# Altium footprint library Connector Footprints.PcbLib: 65 footprints (part 4 of 5)
Each footprint in its own frame and in the unit in brackets; x right, y up, seen from the top. Pads: shape width x height; smd on the part's side, far side on the other; paste and mask are expansions set on the pad; w line width, h text height; cw(c..) or ccw(c..) is an arc to the next point about the centre after c.
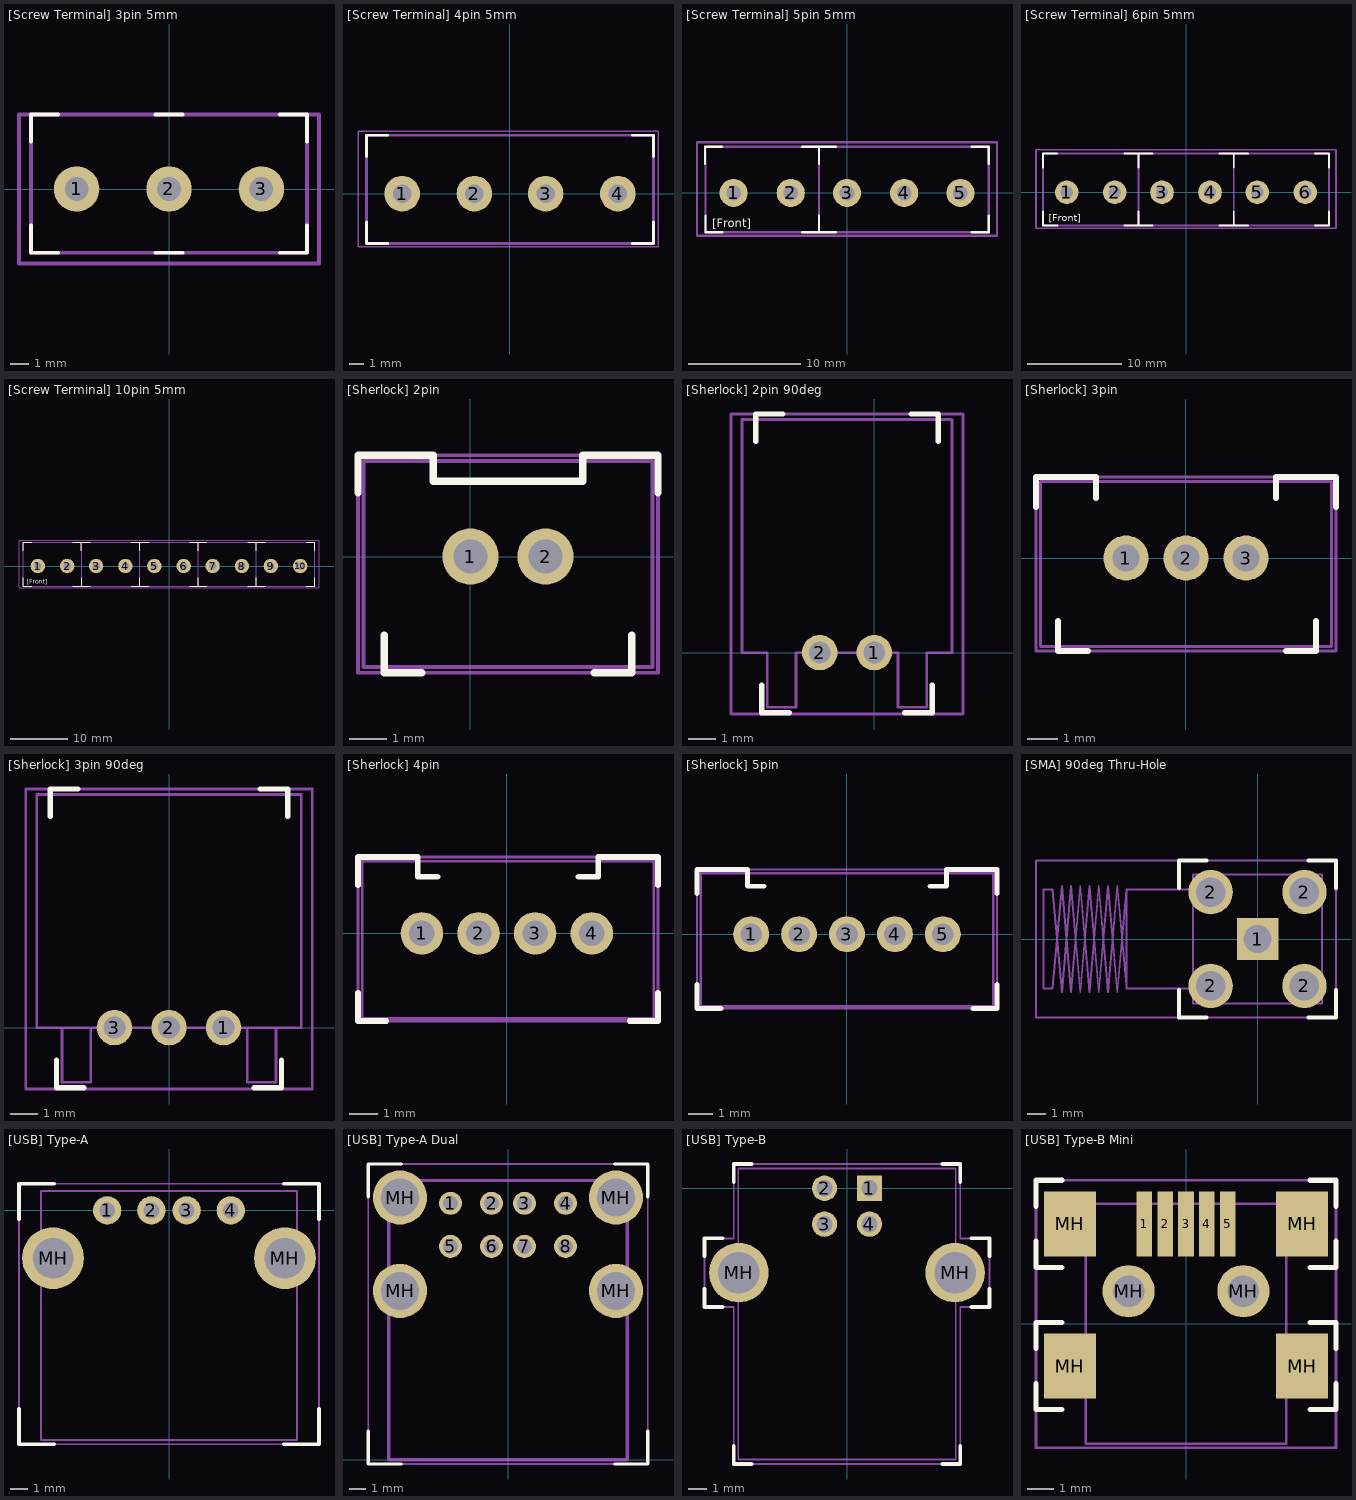
[diagram p3: the footprints below, top view; thin cyan lines are the x and y axes]

## [Screw Terminal] 3pin 5mm [mm]
pads (3):
  round 2.5 hole 1.3: 1(-5.08,0) 2(0,0) 3(5.08,0)
Top Overlay:
  lines w0.2: -7.59,-2 -7.59,-3.5 -6.09,-3.5 ; -7.59,2.6 -7.59,4.1 -6.09,4.1 ; -0.75,-3.5 0.75,-3.5 ; -0.75,4.1 0.75,4.1 ; 6.09,-3.5 7.59,-3.5 7.59,-2 ; 6.09,4.1 7.59,4.1 7.59,2.6
Physical Drawing:
  lines w0.2: -7.59,-3.5 7.59,-3.5 7.59,4.1 -7.59,4.1 -7.59,-3.5
Part Outline:
  lines w0.2: -8.25,-4.1 8.25,-4.1 8.25,4.1 -8.25,4.1 -8.25,-4.1
3D body "TB002-500-03BE.stp": height 10, standoff -4.35, extent -8,-3.5 7.5,4.1

## [Screw Terminal] 4pin 5mm [mm]
pads (4):
  round 2.5 hole 1.3: 1(-7.58,0) 2(-2.5,0) 3(2.5,0) 4(7.58,0)
Top Overlay:
  lines w0.2: -10.09,-2 -10.09,-3.5 -8.59,-3.5 ; -10.09,2.6 -10.09,4.1 -8.59,4.1 ; 8.59,-3.5 10.09,-3.5 10.09,-2 ; 8.59,4.1 10.09,4.1 10.09,2.6
Physical Drawing:
  lines w0.2: -10.09,-3.5 -10.09,4.1 10.09,4.1 10.09,-3.5 -10.09,-3.5
Part Outline:
  lines w0.1: -10.68,-3.75 -10.68,4.4 10.4,4.4 10.4,-3.75 -10.68,-3.75
3D body "TB002-500-02BE.stp": height 9.99, standoff -4.36, extent -0.41,-3.5 10.09,4.1
3D body "TB002-500-02BE.stp": height 9.99, standoff -4.36, extent -10.53,-3.5 -0.03,4.1

## [Screw Terminal] 5pin 5mm [mm]
pads (5):
  round 2.5 hole 1.3: 1(-10.08,0) 2(-5,0) 3(0,0) 4(5.08,0) 5(10.08,0)
Top Overlay:
  lines w0.2: -12.61,2.6 -12.61,4.1 -11.11,4.1 ; -12.57,-2 -12.57,-3.5 -11.07,-3.5 ; -3.99,-3.5 -2.49,-3.5 ; -3.99,4.1 -2.49,4.1 ; -2.49,-2 -2.49,-3.5 ; -2.49,2.6 -2.49,4.1 ; -0.99,-3.5 -2.49,-3.5 ; -0.99,4.1 -2.49,4.1 ; 11.09,-3.5 12.59,-3.5 12.59,-2 ; 11.09,4.1 12.59,4.1 12.59,2.6
  text "[Front]" at -11.962,-3.042 h0.75
Physical Drawing:
  lines w0.2: -12.59,-3.5 12.59,-3.5 12.59,4.1 -12.59,4.1 ; -12.57,-3.5 -12.57,4.1 ; -2.49,-3.5 -2.49,4.1
Part Outline:
  lines w0.2: -13.33,-3.8 -13.33,4.5 13.33,4.5 13.33,-3.8 -13.33,-3.8
3D body "TB002-500-03BE.stp": height 10, standoff -4.35, extent -2.92,-3.5 12.58,4.1
3D body "TB002-500-02BE.stp": height 10, standoff -4.35, extent -12.99,-3.5 -2.49,4.1

## [Screw Terminal] 6pin 5mm [mm]
pads (6):
  round 2.5 hole 1.3: 1(-12.62,0) 2(-7.54,0) 3(-2.54,0) 4(2.54,0) 5(7.54,0) 6(12.62,0)
Top Overlay:
  lines w0.2: -15.15,2.6 -15.15,4.1 -13.65,4.1 ; -15.11,-2 -15.11,-3.5 -13.61,-3.5 ; -6.53,-3.5 -5.03,-3.5 ; -6.53,4.1 -5.03,4.1 ; -5.03,-2 -5.03,-3.5 ; -5.03,2.6 -5.03,4.1 ; -3.53,-3.5 -5.03,-3.5 ; -3.53,4.1 -5.03,4.1 ; 3.55,-3.5 5.05,-3.5 ; 3.55,4.1 5.05,4.1 ; 5.05,-2 5.05,-3.5 ; 5.05,2.6 5.05,4.1 ; 6.55,-3.5 5.05,-3.5 ; 6.55,4.1 5.05,4.1 ; 13.63,-3.5 15.13,-3.5 15.13,-2 ; 13.63,4.1 15.13,4.1 15.13,2.6
  text "[Front]" at -14.502,-3.042 h0.75
Physical Drawing:
  lines w0.2: -15.13,-3.5 15.13,-3.5 15.13,4.1 -15.13,4.1 ; -15.11,-3.5 -15.11,4.1 ; -5.03,-3.5 -5.03,4.1 ; 5.05,-3.5 5.05,4.1
Part Outline:
  lines w0.2: -15.87,-3.8 -15.87,4.5 15.87,4.5 15.87,-3.8 -15.87,-3.8
3D body "TB002-500-02BE.stp": height 9.99, standoff -4.36, extent 4.63,-3.5 15.13,4.1
3D body "TB002-500-02BE.stp": height 9.99, standoff -4.36, extent -5.45,-3.5 5.05,4.1
3D body "TB002-500-02BE.stp": height 9.99, standoff -4.36, extent -15.53,-3.5 -5.03,4.1

## [Screw Terminal] 10pin 5mm [mm]
pads (10):
  round 2.5 hole 1.3: 1(-22.7,0) 2(-17.62,0) 3(-12.62,0) 4(-7.54,0) 5(-2.54,0) 6(2.54,0) 7(7.54,0) 8(12.62,0) 9(17.62,0) 10(22.7,0)
Top Overlay:
  lines w0.2: -25.21,-2 -25.21,-3.5 -23.71,-3.5 ; -25.21,2.6 -25.21,4.1 -23.71,4.1 ; -16.65,4.1 -15.15,4.1 ; -16.61,-3.5 -15.11,-3.5 ; -15.15,2.6 -15.15,4.1 ; -15.11,-2 -15.11,-3.5 ; -13.65,4.1 -15.15,4.1 ; -13.61,-3.5 -15.11,-3.5 ; -6.53,-3.5 -5.03,-3.5 ; -6.53,4.1 -5.03,4.1 ; -5.03,-2 -5.03,-3.5 ; -5.03,2.6 -5.03,4.1 ; -3.53,-3.5 -5.03,-3.5 ; -3.53,4.1 -5.03,4.1 ; 3.55,-3.5 5.05,-3.5 ; 3.55,4.1 5.05,4.1 ; 5.05,-2 5.05,-3.5 ; 5.05,2.6 5.05,4.1 ; 6.55,-3.5 5.05,-3.5 ; 6.55,4.1 5.05,4.1 ; 13.63,-3.5 15.13,-3.5 ; 13.63,4.1 15.13,4.1 ; 15.13,-2 15.13,-3.5 ; 15.13,2.6 15.13,4.1 ; 16.63,-3.5 15.13,-3.5 ; 16.63,4.1 15.13,4.1 ; 23.71,-3.5 25.21,-3.5 25.21,-2 ; 23.71,4.1 25.21,4.1 25.21,2.6
  text "[Front]" at -24.582,-3.042 h0.75
Physical Drawing:
  lines w0.2: -15.11,-3.5 -15.11,4.1 ; -5.03,-3.5 -5.03,4.1 ; 5.05,-3.5 5.05,4.1 ; 15.13,-3.5 15.13,4.1 ; -25.21,-3.5 25.21,-3.5 25.21,4.1 -25.21,4.1 -25.21,-3.5
Part Outline:
  lines w0.2: -25.95,-3.8 25.95,-3.8 25.95,4.5 -25.95,4.5 -25.95,-3.8
3D body "TB002-500-02BE.stp": height 9.99, standoff -4.36, extent 14.71,-3.5 25.21,4.1
3D body "TB002-500-02BE.stp": height 9.99, standoff -4.36, extent 4.63,-3.5 15.13,4.1
3D body "TB002-500-02BE.stp": height 9.99, standoff -4.36, extent -5.45,-3.5 5.05,4.1
3D body "TB002-500-02BE.stp": height 9.99, standoff -4.36, extent -15.53,-3.5 -5.03,4.1
3D body "TB002-500-02BE.stp": height 9.99, standoff -4.36, extent -25.65,-3.5 -15.15,4.1

## [Sherlock] 2pin [mm]
pads (2):
  round 1.5 hole 0.9: 1(0,0) 2(2,0)
Top Overlay:
  lines w0.2: -3,1.7 -3,2.7 -1,2.7 -1,2 3,2 3,2.7 5,2.7 5,1.7 ; -2.3,-2.1 -2.3,-3.1 -1.3,-3.1 ; 3.3,-3.1 4.3,-3.1 4.3,-2.1
Physical Drawing:
  lines w0.1: -2.85,-2.95 -2.85,2.55 4.85,2.55 4.85,-2.95 -2.85,-2.95
Part Outline:
  lines w0.1: -3,-3.1 -3,2.7 5,2.7 5,-3.1 -3,-3.1
3D body "35362-0250.stp": height 8.5, standoff -3.3, extent -2.86,-2.94 4.84,2.61

## [Sherlock] 2pin 90deg [mm] "0353630260"
pads (2):
  round 1.3 hole 0.8: 1(0,0) 2(-2,0)
Top Overlay:
  lines w0.2: -4.35,7.75 -4.35,8.75 -3.35,8.75 ; -4.125,-1.2 -4.125,-2.2 -3.125,-2.2 ; 1.125,-2.2 2.125,-2.2 2.125,-1.2 ; 1.35,8.75 2.35,8.75 2.35,7.75
Physical Drawing:
  lines w0.1: -4.85,0 -3.925,0 -3.925,-2 -2.871,-2 -2.871,0 0.871,0 0.871,-2 1.925,-2 1.925,0 2.85,0 2.85,8.55 -4.85,8.55 -4.85,0
Part Outline:
  lines w0.1: -5.25,-2.25 3.25,-2.25 3.25,8.75 -5.25,8.75 -5.25,-2.25
3D body "35363-0260.stp": height 5.5, standoff -3.2, extent -4.85,-1.95 2.85,8.55

## [Sherlock] 3pin [mm]
pads (3):
  round 1.5 hole 0.9: 1(-2,0) 2(0,0) 3(2,0)
Top Overlay:
  lines w0.2: -5,1.7 -5,2.7 -3,2.7 -3,2 ; -4.26,-2.1 -4.26,-3.1 -3.26,-3.1 ; 3,2 3,2.7 5,2.7 5,1.7 ; 3.34,-3.1 4.34,-3.1 4.34,-2.1
Physical Drawing:
  lines w0.1: -4.85,-2.95 -4.85,2.55 4.85,2.55 4.85,-2.95 -4.85,-2.95
Part Outline:
  lines w0.1: -5,-3.1 -5,2.7 5,2.7 5,-3.1 -5,-3.1
3D body "35362-0350.stp": height 8.5, standoff -3.3, extent -4.81,-2.975 4.89,2.575

## [Sherlock] 3pin 90deg [mm] "0353630360"
pads (3):
  round 1.3 hole 0.8: 1(2,0) 2(0,0) 3(-2,0)
Top Overlay:
  lines w0.2: -4.35,7.75 -4.35,8.75 -3.35,8.75 ; -4.125,-1.2 -4.125,-2.2 -3.125,-2.2 ; 3.125,-2.2 4.125,-2.2 4.125,-1.2 ; 3.35,8.75 4.35,8.75 4.35,7.75
Physical Drawing:
  lines w0.1: -3.925,0 -3.925,-2 -2.871,-2 -2.871,0 ; 2.871,0 2.871,-2 3.925,-2 3.925,0 ; -4.85,0 4.85,0 4.85,8.55 -4.85,8.55 -4.85,0
Part Outline:
  lines w0.1: -5.25,-2.25 -5.25,8.75 5.25,8.75 5.25,-2.25 -5.25,-2.25
3D body "35363-0360.stp": height 5.43, standoff -3.27, extent -4.85,-1.98 4.85,8.52

## [Sherlock] 4pin [mm] "0353620450"
pads (4):
  round 1.5 hole 0.9: 1(-3,0) 2(-1,0) 3(1,0) 4(3,0)
Top Overlay:
  lines w0.2: -5.26,-2.1 -5.26,-3.1 -4.26,-3.1 ; -5.26,1.7 -5.26,2.7 -3.15,2.7 -3.15,2 -2.45,2 ; 2.53,2 3.23,2 3.23,2.7 5.34,2.7 5.34,1.7 ; 4.34,-3.1 5.34,-3.1 5.34,-2.1
Physical Drawing:
  lines w0.1: -5.11,-3 -5.11,2.55 5.19,2.55 5.19,-3 -5.11,-3
Part Outline:
  lines w0.1: 5.32,2.7 -5.26,2.7 -5.26,-3.1 5.34,-3.1 5.34,2.7
3D body "35362-0450.stp": height 8.5, standoff -3.3, extent -5.11,-3 5.19,2.55

## [Sherlock] 5pin [mm] "0353620550"
pads (5):
  round 1.5 hole 0.9: 1(-4,0) 2(-2,0) 3(0,0) 4(2,0) 5(4,0)
Top Overlay:
  lines w0.2: -6.26,-2.1 -6.26,-3.1 -5.26,-3.1 ; -6.26,1.7 -6.26,2.7 -4.15,2.7 -4.15,2 -3.45,2 ; 3.45,2 4.15,2 4.15,2.7 6.26,2.7 6.26,1.7 ; 5.26,-3.1 6.26,-3.1 6.26,-2.1
Physical Drawing:
  lines w0.1: -6.11,-3 -6.11,2.55 6.11,2.55 6.11,-3 -6.11,-3
Part Outline:
  lines w0.1: -6.26,-3.1 -6.26,2.7 6.26,2.7 6.26,-3.1 -6.26,-3.1
3D body "[Sherlock] 5pin.stp": height 8.55, standoff -3.25, extent -6.15,-3 6.15,2.55

## [SMA] 90deg Thru-Hole [mm] "RFPC-SMA27-F"
pads (5):
  rect 2.25x2.25 hole 1.5: 1(0,0)
  round 2.4 hole 1.6: 2(-2.54,-2.54) 2(-2.54,2.54) 2(2.54,-2.54) 2(2.54,2.54)
Top Overlay:
  lines w0.2: -4.25,-2.75 -4.25,-4.25 -2.75,-4.25 ; -4.25,2.75 -4.25,4.25 -2.75,4.25 ; 2.75,-4.25 4.25,-4.25 4.25,-2.75 ; 2.75,4.25 4.25,4.25 4.25,2.75
Physical Drawing:
  lines w0.1: -7.1,-2.54 -7.6,2.87 -8.1,-2.87 -8.6,2.87 -9.1,-2.87 -9.6,2.87 -10.1,-2.87 -10.6,2.87 -11.1,-2.675 -11.6,-2.675 -11.6,2.675 -11.1,2.675 -10.6,-2.87 -10.1,2.87 -9.6,-2.87 -9.1,2.87 -8.6,-2.87 -8.1,2.87 -7.6,-2.87 -7.1,2.675 ; -3.5,-2.675 -7.1,-2.675 -7.1,2.675 ; -3.1,2.675 -7.1,2.675 ; -3.5,-3.5 3.5,-3.5 3.5,3.5 -3.5,3.5 -3.5,-3.5
Part Outline:
  lines w0.1: -12,-4.25 4.25,-4.25 4.25,4.25 -12,4.25 -12,-4.25
3D body "RFPC-SMA27-F.stp": height 10.28, standoff -3.72, extent -11.65,-3.5 3.45,3.5

## [USB] Type-A [mm]
pads (6):
  round 1.6 hole 0.9: 1(-3.5,0) 2(-1,0) 3(1,0) 4(3.5,0)
  round 3.5 hole 2.3: MH(-6.57,-2.71) MH(6.57,-2.71)
Top Overlay:
  lines w0.2: -8.5,-11.25 -8.5,-13.25 -6.5,-13.25 ; -8.5,-0.5 -8.5,1.5 -6.5,1.5 ; 6.5,-13.25 8.5,-13.25 8.5,-11.25 ; 6.5,1.5 8.5,1.5 8.5,-0.5
Physical Drawing:
  lines w0.127: -7.25,-13.01 7.25,-13.01 7.25,1.09 -7.25,1.09 -7.25,-13.01
Part Outline:
  lines w0.1: -8.5,-13.25 -8.5,1.5 8.5,1.5 8.5,-13.25 -8.5,-13.25
3D body "USB Type A Female.STEP": height 7.6, standoff -3.2, extent -7.9,-13.01 7.9,1.09

## [USB] Type-A Dual [mm] "61400826021"
pads (12):
  round 1.4 hole 0.9: 1(-3.5,15.61) 2(-1,15.61) 3(1,15.61) 4(3.5,15.61) 5(-3.5,12.99) 6(-1,12.99) 7(1,12.99) 8(3.5,12.99)
  round 3.3 hole 2.3: MH(-6.57,10.28) MH(-6.57,15.96) MH(6.57,10.28) MH(6.57,15.96)
Top Overlay:
  lines w0.2: -8.5,1.75 -8.5,-0.25 -6.5,-0.25 ; -8.5,16 -8.5,18 -6.5,18 ; 6.5,-0.25 8.5,-0.25 8.5,1.75 ; 6.5,18 8.5,18 8.5,16
Physical Drawing:
  lines w0.2: -7.25,0 -7.25,17 7.25,17 7.25,0 -7.25,0
Part Outline:
  lines w0.1: -8.5,-0.25 -8.5,18 8.5,18 8.5,-0.25 -8.5,-0.25
3D body "61400826021.stp": height 16.19, standoff -3.66, extent -7.913,-0.075 7.913,17.075

## [USB] Type-B [mm] "USB-B-S-F-B-TH"
pads (6):
  rect 1.408x1.408 hole 0.9: 1(1.25,0)
  round 1.408 hole 0.9: 2(-1.25,0) 3(-1.25,-2) 4(1.25,-2)
  round 3.316 hole 2.3: MH(-6.02,-4.7) MH(6.02,-4.7)
Top Overlay:
  lines w0.2: -7.93,-5.61 -7.93,-6.61 -6.93,-6.61 ; -7.93,-3.79 -7.93,-2.79 -6.93,-2.79 ; -6.3,-14.35 -6.3,-15.35 -5.3,-15.35 ; -6.3,0.35 -6.3,1.35 -5.3,1.35 ; 5.3,-15.35 6.3,-15.35 6.3,-14.35 ; 5.3,1.35 6.3,1.35 6.3,0.35 ; 6.93,-6.61 7.93,-6.61 7.93,-5.61 ; 6.93,-2.79 7.93,-2.79 7.93,-3.79
Physical Drawing:
  lines w0.1: -6.05,-15.1 -6.05,1.1 6.05,1.1 6.05,-15.1 -6.05,-15.1
Part Outline:
  lines w0.1: -7.93,-6.61 -7.93,-2.79 -6.3,-2.79 -6.3,1.35 6.3,1.35 6.3,-2.79 7.93,-2.79 7.93,-6.61 6.3,-6.61 6.3,-15.35 -6.3,-15.35 -6.3,-6.61 -7.93,-6.61
3D body "USB Type B Female.stp": height 10.7, standoff -3.74, extent -7.25,-15.1 7.25,1.4

## [USB] Type-B Mini [mm] "MUSB-05-S-B-SM-A-K-TR"
pads (11):
  rect 0.6x2.5 smd: 1(-1.6,3.83) 2(-0.8,3.83) 3(0,3.83) 4(0.8,3.83) 5(1.6,3.83)
  rect 2x2.5 smd: MH(-4.45,-1.62) MH(-4.45,3.83) MH(4.45,-1.62) MH(4.45,3.83)
  round 2 hole 1.2: MH(-2.2,1.25) MH(2.2,1.25)
Top Overlay:
  lines w0.2: -5.75,-2.29 -5.75,-3.29 -4.75,-3.29 ; -5.75,-0.95 -5.75,0.05 -4.75,0.05 ; -5.75,3.16 -5.75,2.16 -4.75,2.16 ; -5.75,4.5 -5.75,5.5 -4.75,5.5 ; 4.75,-3.29 5.75,-3.29 5.75,-2.29 ; 4.75,0.05 5.75,0.05 5.75,-0.95 ; 4.75,2.16 5.75,2.16 5.75,3.16 ; 4.75,5.5 5.75,5.5 5.75,4.5
Physical Drawing:
  lines w0.1: -3.85,-4.6 -3.85,4.6 3.85,4.6 3.85,-4.6 -3.85,-4.6
Part Outline:
  lines w0.1: -5.75,-4.75 -5.75,5.5 5.75,5.5 5.75,-4.75 -5.75,-4.75
3D body "MUSB-05-S-B-SM-A-K-TR.stp": height 4.12, standoff -1.01, extent -4.998,-4.57 4.998,4.93